# Altium schematic symbol library 7-Segments.SchLib: 2 symbols
Pins are listed as number, name and electrical type; pins without a type are passive.

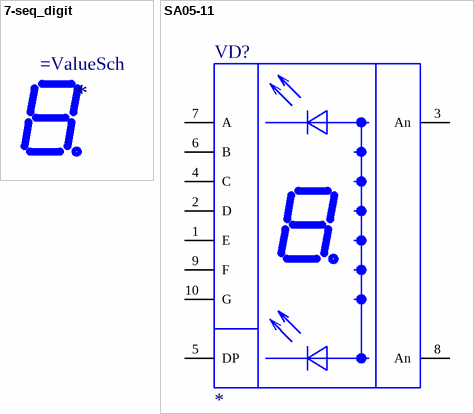
[diagram p0: symbols 7-seq_digit to SA05-11]

## 7-seq_digit
designator *

## SA05-11
designator VD?
7-сегментный светодиодный индикатор с общими анодами и десятичной точкой; ValueSch: *
pins: 1 E, 2 D, 3 An, 4 C, 5 DP, 6 B, 7 A, 8 An, 9 F, 10 G